# Altium footprint library Mixed_Signal_Board.PcbLib: 37 footprints (part 2 of 3)
Each footprint in its own frame and in the unit in brackets; x right, y up, seen from the top. Pads: shape width x height; smd on the part's side, far side on the other; paste and mask are expansions set on the pad; w line width, h text height; cw(c..) or ccw(c..) is an arc to the next point about the centre after c.
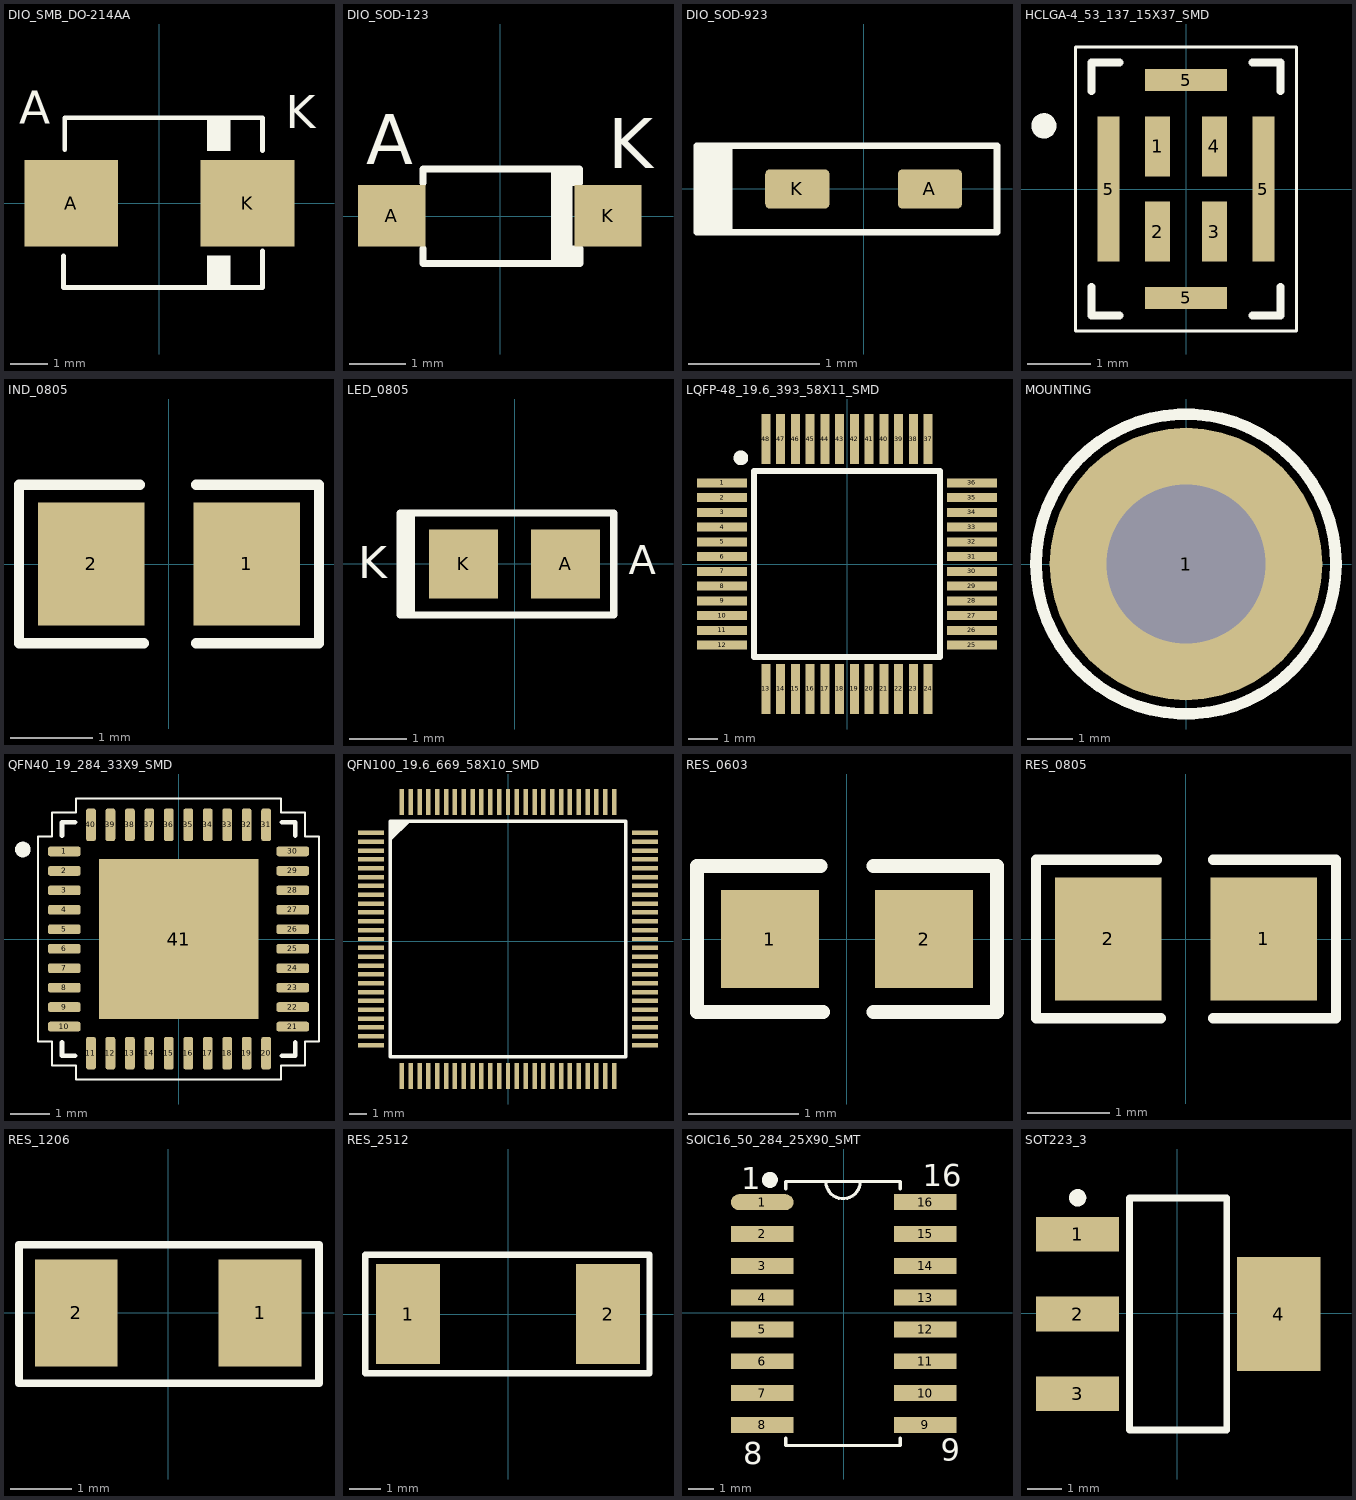
[diagram p1: the footprints below, top view; thin cyan lines are the x and y axes]

## DIO_SMB_DO-214AA [mm]
pads (2):
  rect 2.5x2.3 smd: A(-2.35,0) K(2.354,0)
Top Overlay:
  rectangle: 1.27,-2.25 1.905,-1.397
  rectangle: 1.27,1.396 1.905,2.286
  lines w0.127: -2.563,-2.246 -2.563,-1.407 ; -2.546,-2.246 2.751,-2.246 2.751,-1.27 ; -2.526,1.43 -2.526,2.286 2.754,2.286 2.754,1.402
  text "K" at 3.375,2 h0.89
  text "A" at -3.75,2.125 h0.89
3D body "DO-214AA SMB.step": height 2.27, standoff -0.03, extent -2.557,-1.838 2.843,1.762

## DIO_SOD-123 [mm]
pads (2):
  rect 1.2x1.1 smd mask+0.076: A(-1.937,0.006) K(1.923,0.006)
Top Overlay:
  region: 0.901,0.856 0.912,0.844 0.912,-0.844 1.418,-0.844 1.415,-0.528 1.288,-0.528 1.288,0.539 1.441,0.539 1.443,0.844 0.91,0.844
  lines w0.127: -1.381,-0.579 -1.381,-0.844 1.418,-0.844 1.418,-0.579 ; -1.381,0.59 -1.381,0.844 1.415,0.844 ; 1.415,0.59 1.415,0.816
  text "A" at -2.388,0.923 h0.89
  text "K" at 1.925,0.856 h0.89
3D body "SOD-123_DiodesInc.STEP": height 1.43, standoff -0.02, extent -1.925,-0.844 1.925,0.856

## DIO_SOD-923 [mm]
pads (2):
  rrect25% 0.49x0.3 smd: A(0.505,0) K(-0.505,0)
Top Overlay:
  rectangle: -1.27,-0.33 -1,0.33
  lines w0.05: -1.27,-0.33 -1.27,0.33 1.016,0.33 1.016,-0.33 -1.27,-0.33

## HCLGA-4_53_137_15X37_SMD [mm]
pads (8):
  rect 0.4x0.95 smd: 1(-0.45,0.675) 2(-0.45,-0.675) 3(0.45,-0.675) 4(0.45,0.675)
  rect 0.35x2.3 smd: 5(-1.225,0) 5(1.225,0)
  rect 1.3x0.35 smd: 5(0,-1.725) 5(0,1.725)
Top Overlay:
  circle w0.2: c-2.25,1 r0.1
  lines w0.05: -1.75,-2.25 1.75,-2.25 1.75,2.25 -1.75,2.25 -1.75,-2.25
  lines w0.127: -1.5,-1.55 -1.5,-2 -1.05,-2 ; -1.5,1.55 -1.5,2 -1.05,2 ; 1.05,-2 1.5,-2 1.5,-1.55 ; 1.05,2 1.5,2 1.5,1.55
3D body "User Library-hclga_4l.step": height 1.02, standoff 0.01, extent -1.5,-2 1.5,2

## IND_0805 [mm]
pads (2):
  rect 1.3x1.5 smd mask+0.076: 1(0.95,0) 2(-0.95,0)
Top Overlay:
  lines w0.127: -0.356,0.965 -1.829,0.965 -1.829,-0.965 -0.305,-0.965 ; 0.33,-0.965 1.829,-0.965 1.829,0.965 0.33,0.965
3D body "RES0805.stp": height 0.5, standoff 0, extent -1,-0.63 1,0.62

## LED_0805 [mm]
pads (2):
  rect 1.2x1.2 smd mask+0.076: A(0.889,0) K(-0.889,0)
Top Overlay:
  rectangle: -1.987,-0.889 -1.733,0.889
  lines w0.127: -1.987,-0.889 -1.987,0.889 1.725,0.889 1.725,-0.889 -1.987,-0.889
  text "A" at 1.987,-0.175 h0.51
  text "K" at -2.725,-0.25 h0.56
3D body "led_0805.step": height 1.1, standoff 0, extent -1.01,-0.625 1.01,0.625

## LQFP-48_19.6_393_58X11_SMD [mm]
pads (48):
  rect 1.7x0.3 smd mask+0.076: 1(-4.238,2.75) 2(-4.238,2.25) 3(-4.238,1.75) 4(-4.238,1.25) 5(-4.238,0.75) 6(-4.238,0.25) 7(-4.238,-0.25) 8(-4.238,-0.75) 9(-4.238,-1.25) 10(-4.238,-1.75) 11(-4.238,-2.25) 12(-4.238,-2.75) 25(4.238,-2.75) 26(4.238,-2.25) 27(4.238,-1.75) 28(4.238,-1.25) 29(4.238,-0.75) 30(4.238,-0.25) 31(4.238,0.25) 32(4.238,0.75) 33(4.238,1.25) 34(4.238,1.75) 35(4.238,2.25) 36(4.238,2.75)
  rect 0.3x1.7 smd mask+0.076: 13(-2.75,-4.238) 14(-2.25,-4.238) 15(-1.75,-4.238) 16(-1.25,-4.238) 17(-0.75,-4.238) 18(-0.25,-4.238) 19(0.25,-4.238) 20(0.75,-4.238) 21(1.25,-4.238) 22(1.75,-4.238) 23(2.25,-4.238) 24(2.75,-4.238) 37(2.75,4.238) 38(2.25,4.238) 39(1.75,4.238) 40(1.25,4.238) 41(0.75,4.238) 42(0.25,4.238) 43(-0.25,4.238) 44(-0.75,4.238) 45(-1.25,4.238) 46(-1.75,4.238) 47(-2.25,4.238) 48(-2.75,4.238)
Top Overlay:
  circle w0.25: c-3.6,3.6 r0.125
  lines w0.2: -3.15,-3.15 -3.15,3.15 3.15,3.15 3.15,-3.15 -3.15,-3.15
3D body "STM32F103C8T6TR.stp": height 1.7, standoff 0.1, extent -4.5,-4.5 4.5,4.5

## MOUNTING [mm]
pads (1):
  round 6 hole 3.5: 1(0,0)
Top Overlay:
  circle w0.254: c0,0 r3.3
3D body "093108__3__5-mattssons.step": height 4.24, standoff -2.76, extent -2.998,-2.75 2.998,2.75

## QFN40_19_284_33X9_SMD [mm]
pads (41):
  rrect48% 0.84x0.25 smd: 1(-2.935,2.25) 2(-2.935,1.75) 3(-2.935,1.25) 4(-2.935,0.75) 5(-2.935,0.25) 6(-2.935,-0.25) 7(-2.935,-0.75) 8(-2.935,-1.25) 9(-2.935,-1.75) 10(-2.935,-2.25) 21(2.935,-2.25) 22(2.935,-1.75) 23(2.935,-1.25) 24(2.935,-0.75) 25(2.935,-0.25) 26(2.935,0.25) 27(2.935,0.75) 28(2.935,1.25) 29(2.935,1.75) 30(2.935,2.25)
  rrect48% 0.25x0.84 smd: 11(-2.25,-2.935) 12(-1.75,-2.935) 13(-1.25,-2.935) 14(-0.75,-2.935) 15(-0.25,-2.935) 16(0.25,-2.935) 17(0.75,-2.935) 18(1.25,-2.935) 19(1.75,-2.935) 20(2.25,-2.935) 31(2.25,2.935) 32(1.75,2.935) 33(1.25,2.935) 34(0.75,2.935) 35(0.25,2.935) 36(-0.25,2.935) 37(-0.75,2.935) 38(-1.25,2.935) 39(-1.75,2.935) 40(-2.25,2.935)
  rect 4.1x4.1 smd paste-3: 41(0,0)
Top Overlay:
  circle w0.2: c-4,2.3 r0.1
  lines w0.05: -3.61,-2.63 -3.25,-2.63 -3.25,-3.25 -2.63,-3.25 -2.63,-3.61 2.63,-3.61 2.63,-3.25 3.25,-3.25 3.25,-2.63 3.61,-2.63 3.61,2.63 3.25,2.63 3.25,3.25 2.63,3.25 2.63,3.61 -2.63,3.61 -2.63,3.25 -3.25,3.25 -3.25,2.63 -3.61,2.63 -3.61,-2.63
  lines w0.127: -3,-2.66 -3,-3 -2.66,-3 ; -3,2.66 -3,3 -2.66,3 ; 2.66,-3 3,-3 3,-2.66 ; 2.66,3 3,3 3,2.66
Top Paste:
  region: 1.3,-1.303 -1.303,-1.303 -1.303,1.3 1.3,1.3
3D body "ALSRobot-QFN40 6X6.STEP": height 1.06, standoff 0.01, extent -3.075,-3 3.075,3.15

## QFN100_19.6_669_58X10_SMD [mm]
pads (100):
  rect 1.475x0.254 smd mask+0.076: 1(-7.738,6.127) 2(-7.738,5.627) 3(-7.738,5.127) 4(-7.738,4.627) 5(-7.738,4.127) 6(-7.738,3.627) 7(-7.738,3.127) 8(-7.738,2.627) 9(-7.738,2.127) 10(-7.738,1.627) 11(-7.738,1.127) 12(-7.738,0.627) 13(-7.738,0.127) 14(-7.738,-0.373) 15(-7.738,-0.873) 16(-7.738,-1.373) 17(-7.738,-1.873) 18(-7.738,-2.373) 19(-7.738,-2.873) 20(-7.738,-3.373) 21(-7.738,-3.873) 22(-7.738,-4.373) 23(-7.738,-4.873) 24(-7.738,-5.373) 25(-7.738,-5.873) 51(7.738,-5.873) 52(7.738,-5.373) 53(7.738,-4.873) 54(7.738,-4.373) 55(7.738,-3.873) 56(7.738,-3.373) 57(7.738,-2.873) 58(7.738,-2.373) 59(7.738,-1.873) 60(7.738,-1.373) 61(7.738,-0.873) 62(7.738,-0.373) 63(7.738,0.127) 64(7.738,0.627) 65(7.738,1.127) 66(7.738,1.627) 67(7.738,2.127) 68(7.738,2.627) 69(7.738,3.127) 70(7.738,3.627) 71(7.738,4.127) 72(7.738,4.627) 73(7.738,5.127) 74(7.738,5.627) 75(7.738,6.127)
  rect 0.254x1.475 smd mask+0.076: 26(-6,-7.611) 27(-5.5,-7.611) 28(-5,-7.611) 29(-4.5,-7.611) 30(-4,-7.611) 31(-3.5,-7.611) 32(-3,-7.611) 33(-2.5,-7.611) 34(-2,-7.611) 35(-1.5,-7.611) 36(-1,-7.611) 37(-0.5,-7.611) 38(0,-7.611) 39(0.5,-7.611) 40(1,-7.611) 41(1.5,-7.611) 42(2,-7.611) 43(2.5,-7.611) 44(3,-7.611) 45(3.5,-7.611) 46(4,-7.611) 47(4.5,-7.611) 48(5,-7.611) 49(5.5,-7.611) 50(6,-7.611) 76(6,7.865) 77(5.5,7.865) 78(5,7.865) 79(4.5,7.865) 80(4,7.865) 81(3.5,7.865) 82(3,7.865) 83(2.5,7.865) 84(2,7.865) 85(1.5,7.865) 86(1,7.865) 87(0.5,7.865) 88(0,7.865) 89(-0.5,7.865) 90(-1,7.865) 91(-1.5,7.865) 92(-2,7.865) 93(-2.5,7.865) 94(-3,7.865) 95(-3.5,7.865) 96(-4,7.865) 97(-4.5,7.865) 98(-5,7.865) 99(-5.5,7.865) 100(-6,7.865)
Top Overlay:
  region: -6.65,6.68 -6.548,6.782 -5.507,6.782 -6.65,5.639
  lines w0.2: -6.65,-6.523 -6.65,6.777 6.65,6.777 6.65,-6.523 -6.65,-6.523
3D body "STM32F407VGT6.stp": height 1.6, standoff 0, extent -8,-7.873 8,8.127
3D body "STM32F407VGT6.stp": height 1.6, standoff 0, extent -8,-8 8,8

## RES_0603 [mil]
pads (2):
  rect 35x35 smd mask+3: 1(-27.5,0) 2(27.5,0)
Top Overlay:
  lines w5: -9.5,26 -53.5,26 -53.5,-26 -8.5,-26 ; 9.5,-26 53.5,-26 53.5,26 9.5,26
3D body "User Library-RES_0603-1.STEP": height 18, standoff -0.11, extent -31.5,-15.86 31.5,15.64

## RES_0805 [mm]
pads (2):
  rect 1.3x1.5 smd mask+0.076: 1(0.95,0) 2(-0.95,0)
Top Overlay:
  lines w0.127: -0.356,0.965 -1.829,0.965 -1.829,-0.965 -0.305,-0.965 ; 0.33,-0.965 1.829,-0.965 1.829,0.965 0.33,0.965
3D body "RES0805.stp": height 0.5, standoff 0, extent -1,-0.63 1,0.62

## RES_1206 [mm]
pads (2):
  rect 1.35x1.75 smd: 1(1.5,0) 2(-1.5,0)
Top Overlay:
  lines w0.127: -2.438,-1.15 2.462,-1.15 2.462,1.112 -2.438,1.112 -2.438,-1.15
3D body "RES1206.stp": height 0.55, standoff 0, extent -1.55,-0.772 1.55,0.78

## RES_2512 [mil]
pads (2):
  rect 80x125 smd: 1(-125,0) 2(125,0)
Top Overlay:
  lines w7.87: -178.32,-74 -178.32,0 -178.32,74 ; -178,-74 177,-74 177,74 -178,74
3D body: height 18, standoff 0, extent -137,-60.5 134.5,61
3D body: height 19, standoff 18, extent -115,-55.5 112.5,56.5
3D body: height 19, standoff 0, extent 112.5,-60.5 136,61
3D body: height 19, standoff 0, extent -139,-60.5 -115,61

## SOIC16_50_284_25X90_SMT [mm]
pads (16):
  oval 2.5x0.635 smd mask+0.076: 1(-3.25,4.42)
  rect 2.5x0.635 smd mask+0.076: 2(-3.25,3.15) 3(-3.25,1.88) 4(-3.25,0.61) 5(-3.25,-0.66) 6(-3.25,-1.93) 7(-3.25,-3.2) 8(-3.25,-4.47) 9(3.25,-4.47) 10(3.25,-3.2) 11(3.25,-1.93) 12(3.25,-0.66) 13(3.25,0.61) 14(3.25,1.88) 15(3.25,3.15) 16(3.25,4.42)
Top Overlay:
  circle w0.381: c-2.946,5.309 r0.127
  lines w0.127: -2.311,-5.003 -2.311,-5.295 2.261,-5.295 2.261,-5.003 ; -2.311,4.953 -2.311,5.246 2.261,5.246 2.261,4.953 ; -0.712,5.246 ccw(c-0.025,5.246) 0.662,5.246
  text "1" at -4.089,4.928 h0.89
  text "8" at -4.016,-6.032 h0.89
  text "9" at 3.878,-5.909 h0.89
  text "16" at 3.15,5.055 h0.89
3D body "SOIC-16-1.step": height 1.4, standoff 0, extent -3.025,-4.975 2.975,4.925

## SOT223_3 [mm]
pads (4):
  rect 2.4x1 smd: 1(-2.875,2.275) 2(-2.875,-0.025) 3(-2.875,-2.325)
  rect 2.4x3.3 smd: 4(2.925,-0.025)
Top Overlay:
  circle w0.25: c-2.875,3.325 r0.125
  lines w0.2: -1.375,-3.375 -1.375,3.325 1.425,3.325 1.425,-3.375 -1.375,-3.375
3D body "User Library-SOT223-3.step": height 1.7, standoff 0, extent -3.729,-3.275 3.271,3.225